# Altium schematic symbol library Schlib1.SchLib: 28 symbols
Pins are listed as number, name and electrical type; pins without a type are passive.

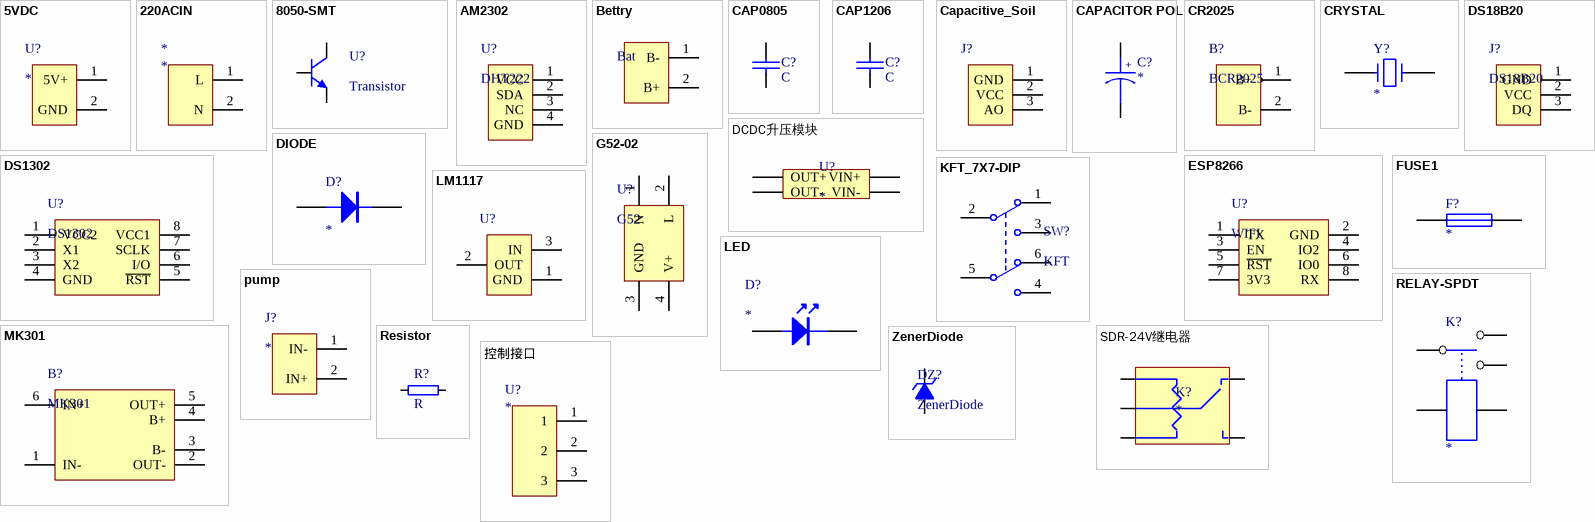
[diagram p0: symbols 5VDC to 控制接口]

## 5VDC
designator U?
footprint XH2.54-LI-2P (接插件，2P)
pins: 1 5V+ (power), 2 GND (power)

## 220ACIN
designator *
footprint 220ACIN
pins: 1 L, 2 N

## 8050-SMT
designator U?, comment Transistor
General NPN
footprint SOT23-3N (3x1.3x1mm(长宽高))
pins: 1 B, 2 E, 3 C

## AM2302
designator U?, comment DHT222
footprint XH2.54-LI-4P (接插件，4P)
pins: 1 VCC (power), 2 SDA, 3 NC, 4 GND (power)

## Bettry
designator B?, comment Bat
footprint XH2.54-LI-2P (接插件，2P)
pins: 1 B- (power), 2 B+ (power)

## CAP0805
designator C?, comment C
Capacitor
footprint 0805C (2.0mmx1.2mm（蒜米工坊）)
pins: 1, 2

## CAP1206
designator C?, comment C
Capacitor
footprint 1206C (3.2mmx1.6mm（蒜米工坊）)
pins: 1, 2

## Capacitive_Soil
designator J?
footprint XH2.54-LI-3P (接插件，3P)
pins: 1 GND (power), 2 VCC (power), 3 AO

## CAPACITOR POL
designator C?
Capacitor
pins: 1, 2
text: +

## CR2025
designator B?, comment BCR2025
footprint CR2025
pins: 1 B+ (power), 2 B- (power)

## CRYSTAL
designator Y?
Crystal
pins: 1, 2

## DCDC升压模块
designator U?
footprint DCDC升压5V
pins: 1 OUT+, 2 OUT-, 3 VIN-, 4 VIN+

## DIODE
designator D?
Diode
footprint DO-41 (2.6*9.1mm(直径，脚距）)
pins: 1 A, 2 K

## DS18B20
designator J?
footprint XH2.54-LI-3P (接插件，3P)
pins: 1 GND (power), 2 VCC (power), 3 DQ

## DS1302
designator U?
pins: 1 VCC2 (power), 2 X1, 3 X2, 4 GND (power), 5 ~{RST}, 6 I/O, 7 SCLK, 8 VCC1 (power)

## ESP8266
designator U?, comment WIFI
footprint ESP8266
pins: 1 TX , 2 GND (power), 3 EN, 4 IO2, 5 ~{RST}, 6 IO0, 7 3V3 (power), 8 RX

## FUSE1
designator F?
Fuse
footprint FU BLX-A (BLX-A型保险丝座)
pins: 1, 2

## G52-02
designator U?, comment G52
220VAC转5DC
footprint G52-02
pins: 1 N (power) "零线", 2 L (power) "火线", 3 GND (power), 4 V+ (power)

## KFT_7X7-DIP
designator SW?, comment KFT
Self-locking Switch
footprint KFT DIP-7X7 (自锁开关，规格：7*7mm)
pins: 1 NC1, 2 COM2, 3 NO1, 4 NO2, 5 COM2, 6 NC2

## LED
designator D?
footprint LED 1206B (蓝色1206LED)
pins: 1, 2

## LM1117
designator U?, comment 3Vout  (value not drawn)
footprint ASM1117_3.3V (6.4x7x1.6mm(长宽高))
pins: 1 GND (power), 2 OUT (power), 3 IN (power)

## MK301
designator B?
footprint TP4056 (充电保护模块)
pins: 1 IN- (power), 2 OUT- (power), 3 B- (power), 4 B+ (power), 5 OUT+ (power), 6 IN+ (power)

## pump
designator J?
footprint XH2.54-LI-2P (接插件，2P)
pins: 1 IN-, 2 IN+

## RELAY-SPDT
designator K?
footprint SRD-C_B (单刀双投)
pins: 1, 2, 3, 4, 5

## Resistor
designator R?, comment R
footprint 0805C (2.0mmx1.2mm（蒜米工坊）)
pins: 1, 2

## SDR-24V继电器
designator K?
footprint SRD-C_B (单刀双投)
pins: 1 coil, 2 coil, 3 power, 4 open, 5 close

## ZenerDiode
designator DZ?
Zener
footprint DO-41 (2.6*9.1mm(直径，脚距）)
pins: 1 A, 2 K

## 控制接口
designator U?
footprint XH2.54-LI-3P (接插件，3P)
pins: 1, 2, 3